# EAGLE library part SENS_PRESS_RSC (library SNWCT_EAGLE_LBR)
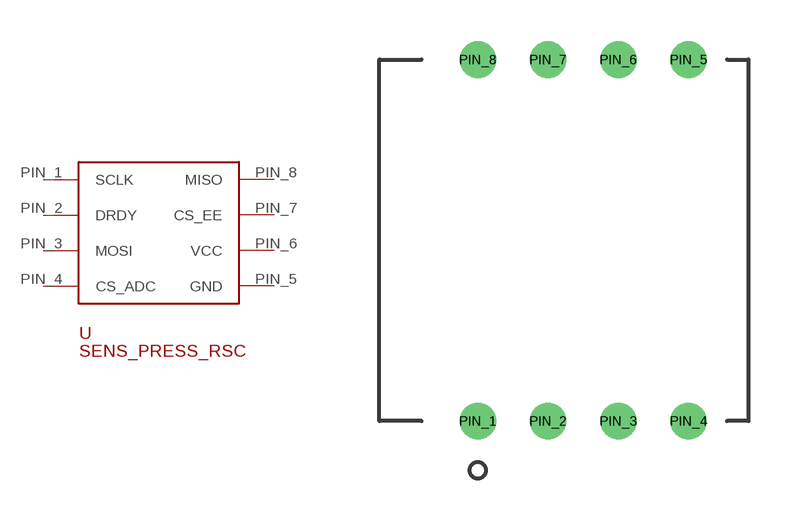
[diagram p2: symbol with the pads of 8-DIP; footprint 8-DIP]

Designator prefix -

## SENS_PRESS_RSC  [8-DIP]
PIN_1  SCLK
PIN_2  DRDY
PIN_3  MOSI
PIN_4  CS_ADC
PIN_5  GND
PIN_6  VCC
PIN_7  CS_EE
PIN_8  MISO

## Footprint 8-DIP (pad centres in mm)
drill 0.813: PIN_1 0,0; PIN_2 2.54,0; PIN_3 5.08,0; PIN_4 7.62,0; PIN_5 7.62,13.081; PIN_6 5.08,13.081; PIN_7 2.54,13.081; PIN_8 0,13.081